# Altium footprint library lib.PcbLib: 64 footprints (part 4 of 4)
Each footprint in its own frame and in the unit in brackets; x right, y up, seen from the top. Pads: shape width x height; smd on the part's side, far side on the other; paste and mask are expansions set on the pad; w line width, h text height; cw(c..) or ccw(c..) is an arc to the next point about the centre after c.
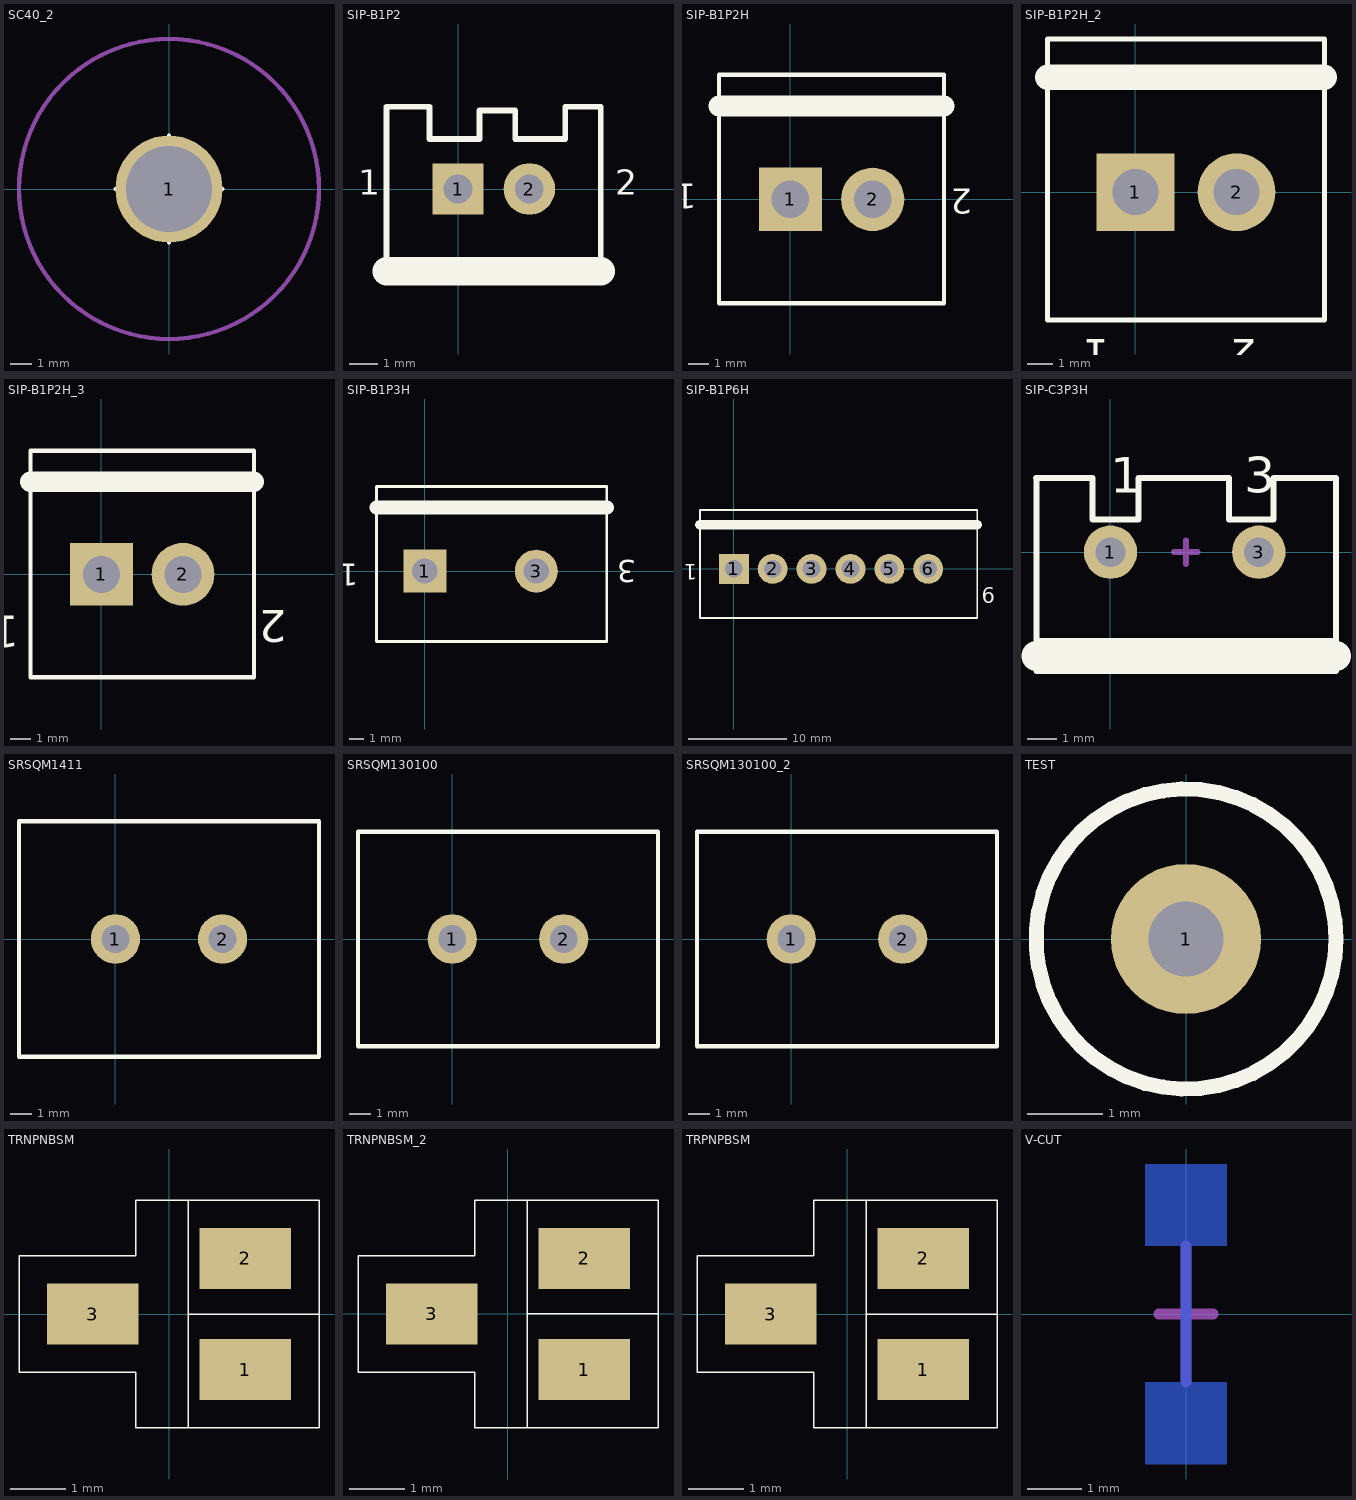
[diagram p3: the footprints below, top view; thin cyan lines are the x and y axes]

## SC40_2 [mm]
pads (1):
  round 5 hole 4: 1(0,0)
Top Overlay:
  circle w0.1: c0,0 r2
  lines w0.2: -2.5,0 2.5,0 ; 0,-2.5 0,2.5
Mechanical 9:
  circle w0.2: c0,0 r7
Mechanical 10:
  circle w0.2: c0,0 r2
3D body: height 1, standoff 0, extent -1.999,-1.999 1.999,1.999

## SIP-B1P2 [mm]
pads (2):
  rect 1.8x1.8 hole 1: 1(0,0)
  round 1.8 hole 1: 2(2.5,0)
Top Overlay:
  lines w0.2: -2.5,-2.875 -2.5,2.875 -1,2.875 -1,1.75 0.75,1.75 0.75,2.75 2,2.75 2,1.75 3.75,1.75 3.75,2.75 3.75,2.875 5,2.875 5,-2.875
  lines w1: -2.5,-2.875 5,-2.875
  text "1" at -3.5,-0.5 h1.5
  text "2" at 5.5,-0.5 h1.5
Bottom Overlay:
  lines w0.4: 1.25,-1.5 1.25,1.25
  text "2" at 6.25,-0.5 h1.5
  text "1" at -3,-0.5 h1.5
3D body: height 10, standoff 0, extent -2.5,-2.75 5,2.75

## SIP-B1P2H [mil]
height 1107.87
pads (2):
  rect 120x120 hole 70.87: 1(0,0)
  round 120 hole 70.87: 2(155.91,0)
Top Overlay:
  lines w7.87: -135.43,-196.85 -135.43,236.22 291.34,236.22 291.34,-196.85 -135.43,-196.85
  lines w39.37: -135.43,177.17 291.34,177.17
  text "2" at 344.49,19.68 h47.24
  text "1" at -177.17,29.53 h47.24
Bottom Overlay:
  text "2" at 334.65,-29.53 h47.24
  text "1" at -178.74,-31.5 h47.24

## SIP-B1P2H_2 [mil]
pads (2):
  rect 120x120 hole 70.87: 1(0,0)
  round 120 hole 70.87: 2(155.91,0)
Top Overlay:
  lines w7.87: -135.43,-196.85 -135.43,236.22 291.34,236.22 291.34,-196.85 -135.43,-196.85
  lines w39.37: -135.43,177.17 291.34,177.17
  text "2" at 187.01,-226.38 h47.24
  text "1" at -39.37,-226.38 h47.24
Bottom Overlay:
  text "2" at 334.65,-29.53 h47.24
  text "1" at -168.9,-19.69 h47.24

## SIP-B1P2H_3 [mil]
pads (2):
  rect 120x120 hole 70.87: 1(0,0)
  round 120 hole 70.87: 2(155.91,0)
Top Overlay:
  lines w7.87: -135.43,-196.85 291.34,-196.85 291.34,236.22 -135.43,236.22 -135.43,-196.85
  lines w39.37: -135.43,177.17 291.34,177.17
  text "1" at -157.48,-78.74 h61.52
  text "2" at 354.33,-68.9 h61.52
Bottom Overlay:
  text "1" at -178.74,-31.5 h47.24
  text "2" at 314.96,-39.37 h47.24

## SIP-B1P3H [mm]
pads (3):
  rect 3.048x3.048 hole 1.8: 1(0,0)
  round 0 all layers, no hole: 2(3.96,0)
  round 3.048 hole 1.8: 3(7.92,0)
Top Overlay:
  lines w0.2: -3.44,-5 12.92,-5 12.92,6 -3.44,6 -3.44,-5
  lines w1: -3.44,4.5 12.92,4.5
  text "1" at -4.75,0.5 h1.56
  text "3" at 15,0.75 h1.56
Bottom Overlay:
  text "1" at -4.54,-0.8 h1.56
  text "3" at 14.8,-0.8 h1.56

## SIP-B1P6H [mil]
pads (6):
  rect 120x120 hole 70.87: 1(0,0)
  round 120 hole 70.87: 2(155.91,0) 3(311.81,0) 4(467.72,0) 5(623.62,0) 6(779.53,0)
Top Overlay:
  lines w7.87: -135.43,-196.85 -135.43,236.22 976.38,236.22 976.38,-196.85 -135.43,-196.85
  lines w39.37: -135.43,177.17 976.38,177.17
  text "6" at 994.09,-137.79 h61.52
  text "1" at -147.64,19.68 h61.52
Bottom Overlay:
  text "6" at 1050.39,-31.5 h61.52
  text "1" at -178.74,-31.5 h47.24

## SIP-C3P3H [mm]
height 7
pads (3):
  round 1.8 hole 1: 1(0,0) 3(5,0)
  round 0 all layers, no hole: 2(2.5,0)
Top Overlay:
  lines w0.2: -2.51,2.5 -0.61,2.5 -0.61,1.1 0.94,1.1 0.94,2.5 3.99,2.5 3.99,1.1 5.49,1.1 5.49,2.5 7.59,2.5 ; -2.5,-3 7.5,-3 ; -2.5,2.5 -2.5,-4 7.6,-4 7.6,2.5
  lines w1: -2.5,-3.5 7.6,-3.5
  text "1" at 0,2 h1.2
  text "3" at 4.5,2 h1.2
Bottom Overlay:
  lines w0.5: 1.25,-1.25 1.25,1 ; 3.75,-1.25 3.75,1
  text "1" at -4.75,1.25 h1.2
  text "3" at 8.25,-0.25 h1.2
Mechanical 9:
  lines w0.2: 2.14,0 2.94,0 ; 2.54,-0.4 2.54,0.4
3D body: height 7, standoff 0, extent -2.5,-4.1 7.6,2.525

## SRSQM1411 [mm]
height 51
pads (2):
  round 2.3 hole 1.3: 1(0,0) 2(5,0)
Top Overlay:
  lines w0.2: -4.5,-5.5 -4.5,5.5 9.5,5.5 9.5,-5.5 -4.5,-5.5
3D body: height 51, standoff 1, extent -4.5,-5.5 9.5,5.5

## SRSQM130100 [mm]
height 50
pads (2):
  round 2.3 hole 1.3: 1(0,0) 2(5.2,0)
Top Overlay:
  lines w0.2: -4.4,-5 -4.4,5 9.6,5 9.6,-5 -4.4,-5
3D body: height 40, standoff 0, extent -4.5,-5 9.9,5

## SRSQM130100_2 [mm]
pads (2):
  round 2.3 hole 1.3: 1(0,0) 2(5.2,0)
Top Overlay:
  lines w0.2: -4.4,-5 -4.4,5 9.6,5 9.6,-5 -4.4,-5
3D body: height 40, standoff 0, extent -4.5,-5 9.9,5

## TEST [mm]
height 0.5
pads (1):
  round 2 hole 1: 1(0,0)
Top Overlay:
  circle w0.2: c0,0 r2

## TRNPNBSM [mm]
height 1.3
pads (3):
  rect 1.65x1.1 smd: 1(1.375,-1) 2(1.375,1) 3(-1.375,0)
Top Overlay:
  lines w0.025: 0.35,-2.05 0.35,2.05 ; 0.35,0 2.7,0 ; -2.7,-1.05 -2.7,1.05 -0.6,1.05 -0.6,2.05 2.7,2.05 2.7,-2.05 -0.6,-2.05 -0.6,-1.05 -2.7,-1.05
Mechanical 9:
  text "E" at 0.5,2.1 h0.79
  text "C" at -2.2,-2.05 h0.79
  text "B" at 0.5,-2.9 h0.79
3D body: height 1.3, standoff 0, extent -2.7,-2.05 2.7,2.05

## TRNPNBSM_2 [mm]
pads (3):
  rect 1.65x1.1 smd: 1(1.375,-1) 2(1.375,1) 3(-1.375,0)
Top Overlay:
  lines w0.025: 0.35,-2.05 0.35,2.05 ; 0.35,0 2.7,0 ; -2.7,-1.05 -2.7,1.05 -0.6,1.05 -0.6,2.05 2.7,2.05 2.7,-2.05 -0.6,-2.05 -0.6,-1.05 -2.7,-1.05
Mechanical 9:
  text "E" at 0.5,2.1 h1.2
  text "C" at -0.75,-2.75 h1.2
  text "B" at 0.5,-2.9 h1.2
3D body: height 1.3, standoff 0, extent -2.7,-2.05 2.7,2.05

## TRPNPBSM [mm]
height 1.14
pads (3):
  rect 1.65x1.1 smd: 1(1.375,-1) 2(1.375,1) 3(-1.375,0)
Top Overlay:
  lines w0.025: 0.35,-2.05 0.35,2.05 ; 0.35,0 2.7,0 ; -2.7,-1.05 -2.7,1.05 -0.6,1.05 -0.6,2.05 2.7,2.05 2.7,-2.05 -0.6,-2.05 -0.6,-1.05 -2.7,-1.05
Mechanical 9:
  text "E" at 0.5,2.2 h1.2
  text "B" at 0.55,-2.95 h1.2
  text "C" at -2.15,-1.95 h1.2
3D body: height 1.14, standoff 0, extent -2.7,-2.05 2.7,2.05

## V-CUT [mm]
Bottom Layer:
  region: 0.75,-2.75 0.75,-1.25 -0.75,-1.25 -0.75,-2.75
  region: 0.75,1.25 0.75,2.75 -0.75,2.75 -0.75,1.25
  lines w0.2: 0,-1.6 0,1.5
Bottom Solder:
  region: 0.75,-2.75 0.75,-1.25 0,-1.25 -0.75,-1.25 -0.75,-2.75
  region: 0.75,1.25 0.75,2.75 0,2.75 -0.75,2.75 -0.75,1.25
Mechanical 9:
  lines w0.2: -0.5,0 0.5,0 ; 0,-1.25 0,1.25